# EAGLE library part RDA5807M (library rda5807m)
SINGLE-CHIP BROADCAST FM RADIO TUNER with I2C Interface 10-Lead MSOP
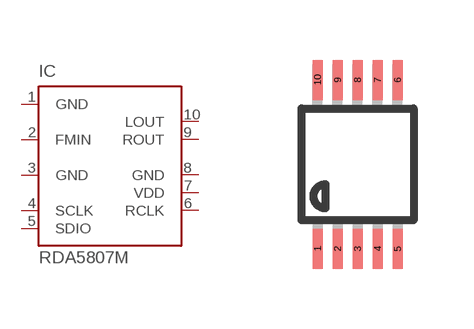
[diagram p0: symbol with the pads of MSOP10; footprint MSOP10]

Designator prefix IC

## RDA5807M (MPN: RDA5807M; OC_FARNELL: 1078311; OC_NEWARK: 31M4422)  [MSOP10]
1  GND  pwr
2  FMIN  in
3  GND  pwr
4  SCLK  pwr
5  SDIO  pwr
6  RCLK
7  VDD  pwr
8  GND  pwr
9  ROUT  out
10  LOUT  in

## Footprint MSOP10 (pad centres in mm)
10-Lead Mini Small Outline Package [MSOP] (RM-10) Source: http://www.analog.com/UploadedFiles/Data_Sheets/35641221898805SSM2167_b.pdf COMPLIANT TO JEDEC STANDARDS MO-187BA
smd 0.25 x 1: 1 -1,-2.113; 2 -0.5,-2.113; 3 0,-2.113; 4 0.5,-2.113; 5 1,-2.113; 6 1,2.113; 7 0.5,2.113; 8 0,2.113; 9 -0.5,2.113; 10 -1,2.113